# EAGLE library part 74XX164 (library led_oscilloscope)
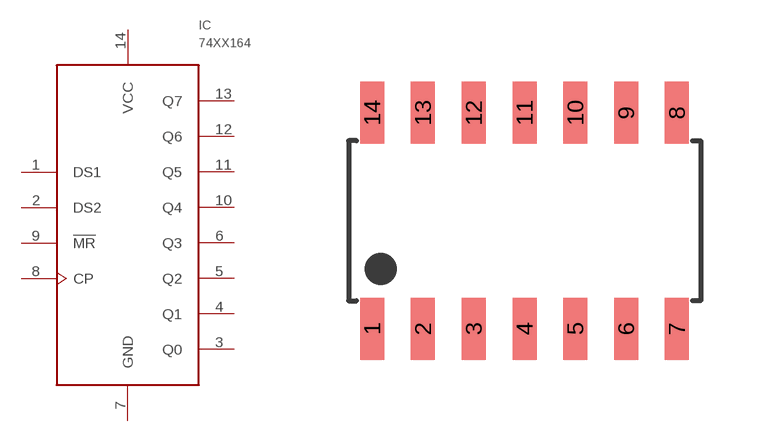
[diagram p2: symbol with the pads of SOIC-14; footprint SOIC-14]

Designator prefix IC

## 74XX164  [SOIC-14]
1  DS1
2  DS2
3  Q0
4  Q1
5  Q2
6  Q3
7  GND
8  CP
9  !MR!
10  Q4
11  Q5
12  Q6
13  Q7
14  VCC

## Footprint SOIC-14 (pad centres in mm)
smd 0.6 x 1.55: 1 -3.81,-2.7; 2 -2.54,-2.7; 3 -1.27,-2.7; 4 0,-2.7; 5 1.27,-2.7; 6 2.54,-2.7; 7 3.81,-2.7; 8 3.81,2.7; 9 2.54,2.7; 10 1.27,2.7; 11 0,2.7; 12 -1.27,2.7; 13 -2.54,2.7; 14 -3.81,2.7